# Altium schematic symbol library MKP1848C52080JK2.SchLib: 1 symbol
Pins are listed as number, name and electrical type; pins without a type are passive.

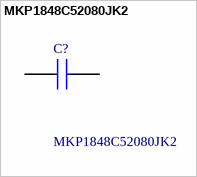
[diagram p0: symbol MKP1848C52080JK2]

## MKP1848C52080JK2
designator C?
Film Capacitors 2uF 5% 800V; Manufacturer_Name: Vishay; Geometry.Height: 19mm; Mouser Part Number: 75-MKP1848C52080JK2; Mouser Price/Stock: https://www.mouser.co.uk/ProductDetail/Vishay-Roederstein/MKP1848C52080JK2?qs=HVbQlW5zcXXd%2FkjsDzvKfA%3D%3D; Manufacturer_Part_Number: MKP1848C52080JK2; Datasheet Link: https://4donline.ihs.com/images/VipMasterIC/IC/VISH/VISH-S-A0006718831/VISH-S-A0006718831-1.pdf?hkey=CECEF36DEECDED6468708AAF2E19C0C6
footprint MKP1848C52080JK2
pins: 1, 2